# EAGLE library part BB26A?* (library power_distribution)
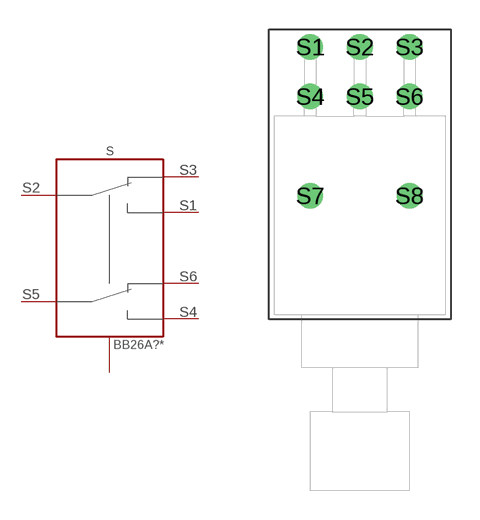
[diagram p9: symbol with the pads of BB26AH; footprint BB26AH]

Designator prefix S

## BB26AH-F, BB26AH-FA (MF: NKK Switches; MOUSER: 633-BB26AH-FA; MPN: BB26AH-FA), BB26AH-FB (MF: NKK Switches; MPN: BB26AH-FB), BB26AH-FC (MF: NKK Switches; MPN: BB26AH-FC)  [BB26AH]
S1  2  pas
S2  1  pas
S3  3  pas
S4  5  pas
S5  4  pas
S6  6  pas
S7  P7  hiz
S8  P7  hiz

## Footprint BB26AH (pad centres in mm)
drill 0.8: S1 -2.54,13.7; S2 0,13.7; S3 2.54,13.7; S4 -2.54,11.16; S5 0,11.16; S6 2.54,11.16; S7 -2.54,6.08; S8 2.54,6.08